# Altium integrated library MXC6655XA.IntLib: 1 symbol
Pins are listed as number, name and electrical type; pins without a type are passive.

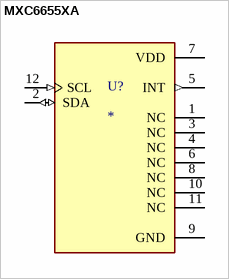
[diagram p0: symbol MXC6655XA]

## MXC6655XA
designator U?
Acceleration Sensor Development Tools Eval Board for MXC6655; MP: MXC6655XA; MF: Memsic Inc.; Purchase-URL: https://pricing.snapeda.com/search/part/MXC6655XA/?ref=eda; Package: VFLGA-12 Memsic Inc.; Price: None; Value: *; Check_prices: https://www.snapeda.com/parts/MXC6655XA/Memsic+Inc./view-part/?ref=eda; SnapEDA_Link: https://www.snapeda.com/parts/MXC6655XA/Memsic+Inc./view-part/?ref=snap; Availability: In Stock
footprint IC_MXC6655XA
pins: 1 NC, 2 SDA (io), 3 NC, 4 NC, 5 INT (out), 6 NC, 7 VDD (power), 8 NC, 9 GND (power), 10 NC, 11 NC, 12 SCL (in)